# Altium footprint library Footprint.PcbLib: 240 footprints (part 15 of 15)
Each footprint in its own frame and in the unit in brackets; x right, y up, seen from the top. Pads: shape width x height; smd on the part's side, far side on the other; paste and mask are expansions set on the pad; w line width, h text height; cw(c..) or ccw(c..) is an arc to the next point about the centre after c.
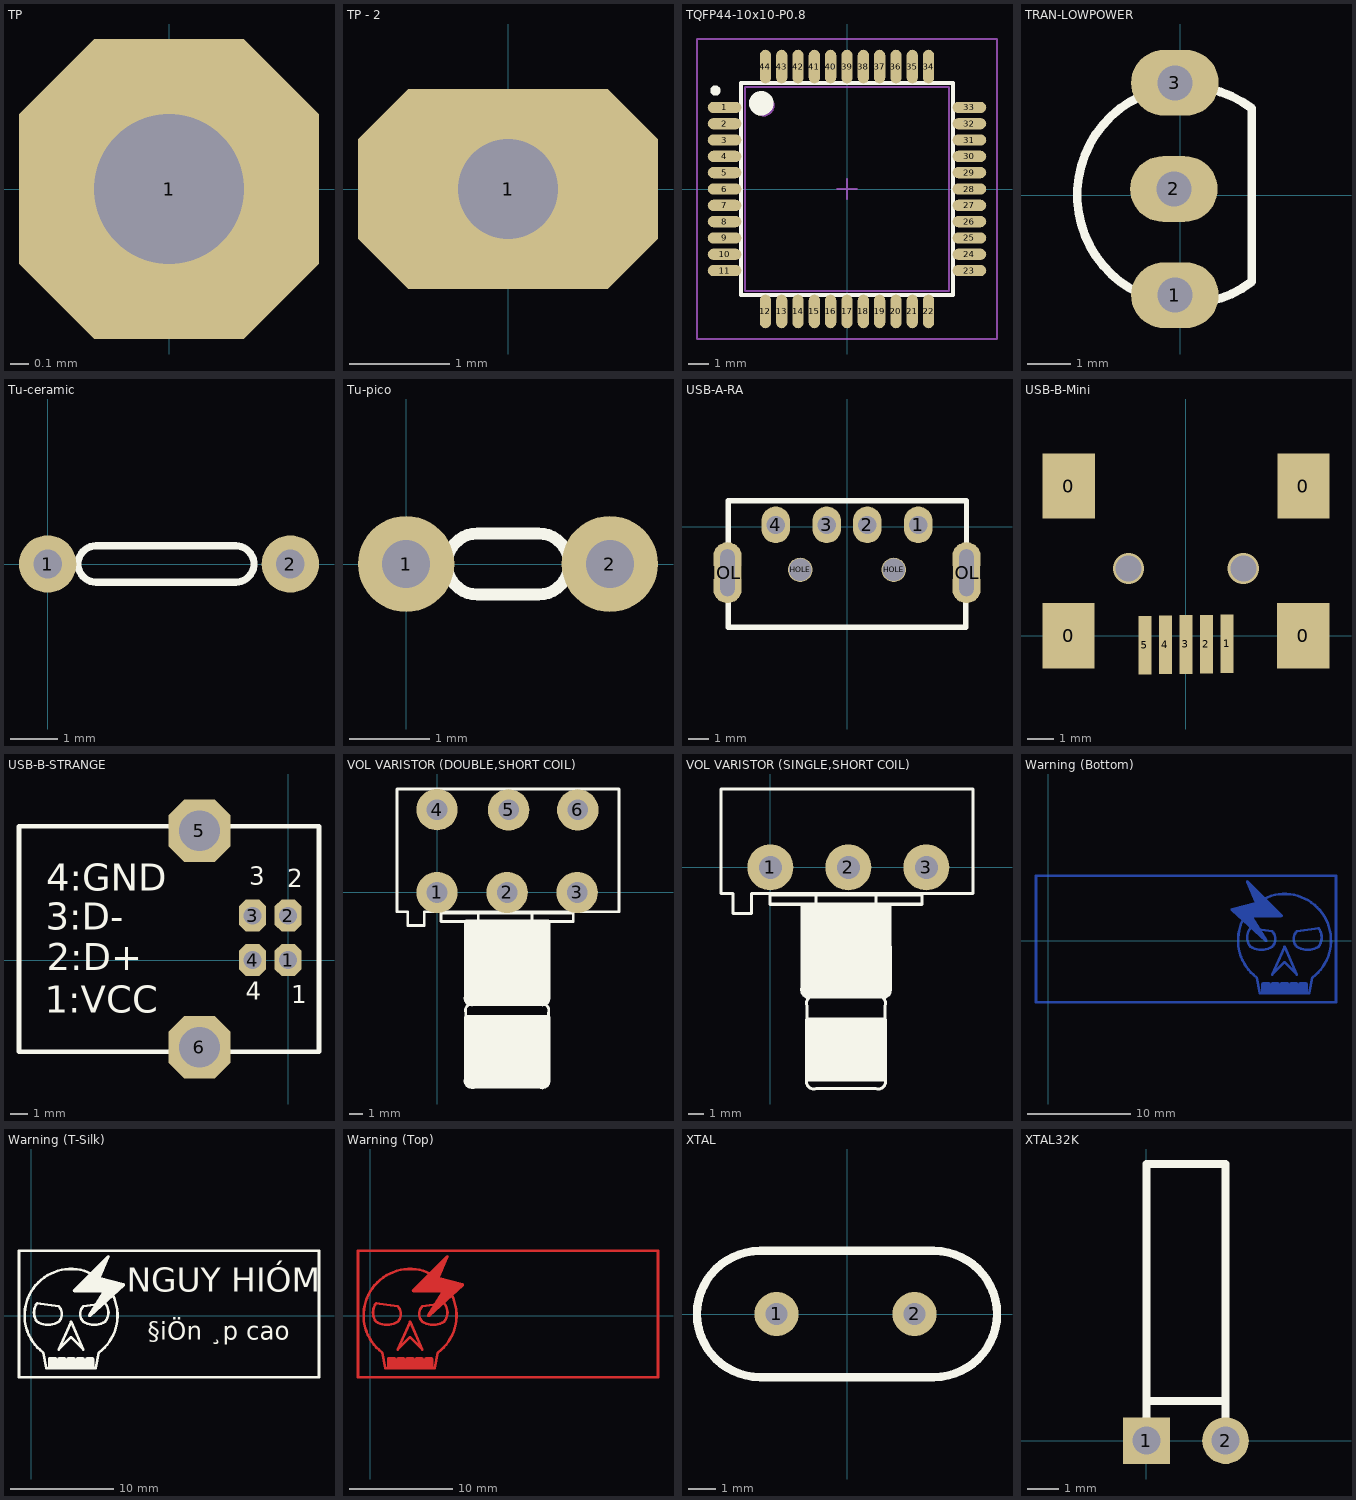
[diagram p14: the footprints below, top view; thin cyan lines are the x and y axes]

## TP [mm] "TestPoint"
pads (1):
  oct 1.6x1.6 hole 0.8: 1(0,0)

## TP - 2 [mm] "TestPoint"
pads (1):
  oct 3x2 hole 1: 1(0,0)

## TQFP44-10x10-P0.8 [mm] "QFP, 44-Leads, Body 10x10mm, Pitch 0.8mm, IPC High Density"
height 2.44
pads (44):
  oval 1.65x0.55 smd: 1(-6,4) 2(-6,3.2) 3(-6,2.4) 4(-6,1.6) 5(-6,0.8) 6(-6,0) 7(-6,-0.8) 8(-6,-1.6) 9(-6,-2.4) 10(-6,-3.2) 11(-6,-4) 23(6,-4) 24(6,-3.2) 25(6,-2.4) 26(6,-1.6) 27(6,-0.8) 28(6,0) 29(6,0.8) 30(6,1.6) 31(6,2.4) 32(6,3.2) 33(6,4)
  oval 0.55x1.65 smd: 12(-4,-6) 13(-3.2,-6) 14(-2.4,-6) 15(-1.6,-6) 16(-0.8,-6) 17(0,-6) 18(0.8,-6) 19(1.6,-6) 20(2.4,-6) 21(3.2,-6) 22(4,-6) 34(4,6) 35(3.2,6) 36(2.4,6) 37(1.6,6) 38(0.8,6) 39(0,6) 40(-0.8,6) 41(-1.6,6) 42(-2.4,6) 43(-3.2,6) 44(-4,6)
Top Overlay:
  circle w0.6: c-4.2,4.2 r0.3
  circle w0.25: c-6.45,4.825 r0.125
  lines w0.2: -5.2,-5.2 5.2,-5.2 5.2,5.2 -5.2,5.2 -5.2,-5.2
Mechanical 13:
  circle w0.1: c-4.1,4.1 r0.5
  lines w0.1: -5,-5 5,-5 5,5 -5,5 -5,-5
Mechanical 15:
  lines w0.1: -0.5,0 0.5,0 ; 0,-0.5 0,0.5 ; -7.35,-7.35 7.35,-7.35 7.35,7.35 -7.35,7.35 -7.35,-7.35
3D body: height 1.07, standoff 0, extent -5.994,-5.994 6.006,6.006

## TRAN-LOWPOWER [mm] "TO, Flat Index; 3 In-Line, Axial Leads; Body Dia. 4.5mm; Leads 0.51 x 0.48 mm (max)"
height 6.86
pads (3):
  oval 2x1.5 hole 0.8: 1(-0.127,-2.286) 2(-0.151,0.139) 3(-0.127,2.564)
Top Overlay:
  lines w0.2: 1.627,-1.98 cw(c0.127,0) 1.627,1.98 1.627,-1.98
3D body: height 11, standoff -1, extent -2.476,-2.794 1.524,3.006

## Tu-ceramic [mm] "Tu gom mini"
pads (2):
  round 1.2 hole 0.6: 1(0,0) 2(5.08,0)
Top Overlay:
  lines w0.15: 1.016,-0.381 cw(c1.016,0) 1.016,0.381 3.937,0.381 cw(c3.937,0) 3.937,-0.381 1.016,-0.381
3D body: height 6.12, standoff -1.8, extent -0.378,-0.848 5.461,0.848

## Tu-pico [mm] "Tu gom mini"
pads (2):
  round 1.2 hole 0.6: 1(0,0) 2(2.54,0)
Top Overlay:
  lines w0.15: 0.889,-0.381 cw(c0.889,0) 0.889,0.381 1.651,0.381 cw(c1.651,0) 1.651,-0.381 0.889,-0.381
3D body: height 6.12, standoff -1.8, extent -1.647,-0.848 4.191,0.848

## USB-A-RA [mm] "USB Type A"
pads (8):
  oval 1.4x1.8 hole 0.9: 1(3.5,0.08) 2(1,0.08) 3(-1,0.08) 4(-3.5,0.08)
  oval 1.4x3 hole 0.7 slot 2.3 at 90 deg: HOLE(-5.875,-2.27) HOLE(5.875,-2.27)
  round 1.2 hole 1.1: HOLE(-2.3,-2.13) HOLE(2.3,-2.13)
Top Overlay:
  lines w0.254: 5.842,-2.27 5.842,-4.953 -5.842,-4.953 -5.842,1.27 5.875,1.27 5.875,-2.27
Keep-Out Layer:
  lines w0.254: 5.842,-2.27 5.875,-2.27
3D body: height 2.18, standoff -3.52, extent -6.25,-19.8 6.25,0.23

## USB-B-Mini [mm]
pads (9):
  rect 2x2.5 smd: 0(-4.5,0) 0(-4.496,5.74) 0(4.5,0) 0(4.504,5.74)
  rect 0.5x2.25 smd: 1(1.575,-0.305) 2(0.787,-0.318) 3(0,-0.33) 4(-0.787,-0.343) 5(-1.575,-0.356)
via -2.2,2.58 diameter 1.2 hole 1
via 2.2,2.58 diameter 1.2 hole 1
3D body: height 3.95, standoff -1, extent -5.35,-0.673 5.35,8.527

## USB-B-STRANGE [mm] "USB Type B - STRANGE - Slave Device"
pads (6):
  oct 1.5x1.8 hole 1: 1(0,0) 2(0,2.5) 3(-2,2.5) 4(-2,0)
  oct 3.5x3.5 hole 2.3: 5(-4.988,7.283) 6(-4.988,-4.909)
Top Overlay:
  lines w0.254: -15.148,-5.163 1.743,-5.163 1.743,7.537 -15.148,7.537 -15.148,-5.163
  text "4" at -2.372,-2.242 h1
  text "2" at -0.035,4.108 h1
  text "3" at -2.194,4.235 h1
  text "1" at 0.193,-2.42 h1
  text "4:GND" at -13.624,3.905 h1.52
  text "3:D-" at -13.65,1.695 h1.52
  text "2:D+" at -13.574,-0.565 h1.52
  text "1:VCC" at -13.701,-2.978 h1.52
3D body: height 10.98, standoff -3.24, extent -15.45,-6.179 0.85,8.68

## VOL VARISTOR (DOUBLE,SHORT COIL) [mm]
pads (6):
  round 3 hole 1.5: 1(0,0) 2(5.08,0) 3(10.16,0) 4(0,6.003) 5(5.19,5.991) 6(10.201,5.991)
Top Overlay:
  region: 8.158,-8.928 8.19,-9.004 8.19,-13.482 8.191,-13.484 8.221,-13.635 8.217,-13.656 8.221,-13.677 8.184,-13.863 8.172,-13.881 8.168,-13.902 8.063,-14.059 8.045,-14.071 8.033,-14.088 7.876,-14.193 7.855,-14.198 7.837,-14.21 7.652,-14.246 7.631,-14.242 7.61,-14.246 7.469,-14.218 2.703,-14.214 2.701,-14.216 2.55,-14.246 2.529,-14.242 2.507,-14.246 2.322,-14.209 2.305,-14.197 2.283,-14.193 2.127,-14.088 2.115,-14.07 2.097,-14.058 1.992,-13.901 1.988,-13.88 1.976,-13.862 1.939,-13.677 1.943,-13.656 1.939,-13.635 1.969,-13.484 1.97,-13.482 1.97,-9.004 2.002,-8.928 2.079,-8.896 8.081,-8.896
  region: 8.119,-2.009 8.158,-2.024 8.158,-2.025 8.174,-2.063 8.19,-2.101 8.193,-7.492 8.221,-7.632 8.217,-7.653 8.221,-7.675 8.184,-7.86 8.172,-7.878 8.168,-7.899 8.063,-8.056 8.045,-8.068 8.033,-8.086 7.876,-8.191 7.855,-8.195 7.837,-8.207 7.652,-8.244 7.631,-8.239 7.61,-8.244 7.459,-8.213 7.457,-8.212 2.691,-8.216 2.55,-8.244 2.529,-8.239 2.507,-8.244 2.322,-8.207 2.304,-8.195 2.283,-8.191 2.126,-8.086 2.114,-8.068 2.096,-8.056 1.991,-7.899 1.987,-7.878 1.975,-7.86 1.938,-7.675 1.943,-7.653 1.938,-7.632 1.968,-7.481 1.97,-7.478 1.97,-2.101 2.002,-2.025 2.079,-1.993 8.081,-1.993
  lines w0.2: 2.679,-14.107 7.481,-14.107 ccw(c7.631,-13.656) 8.081,-13.506 8.081,-8.704 ccw(c7.631,-8.554) 7.481,-8.103 ; 2.679,-14.106 cw(c2.529,-13.656) 2.079,-13.506 2.079,-8.704 cw(c2.529,-8.554) 2.679,-8.104 ; 2.679,-8.103 cw(c2.529,-7.653) 2.079,-7.504 2.079,-2.101 8.081,-2.101 8.081,-7.504 cw(c7.631,-7.653) 7.481,-8.104 ; 2.679,-8.104 7.481,-8.104 ; 2.679,-8.104 7.481,-8.104 ; -2.897,-1.4 -2.897,7.504 13.184,7.504 13.184,-1.4 -0.923,-1.4 -0.923,-2.399 -2.123,-2.399 -2.123,-1.4 -2.897,-1.4 ; 0.278,-2.101 0.278,-1.501 9.882,-1.501 9.882,-2.101 0.278,-2.101 ; 2.979,-2.101 6.881,-2.101 6.881,-1.501 2.979,-1.501 2.979,-2.101

## VOL VARISTOR (SINGLE,SHORT COIL) [mm]
pads (3):
  round 3 hole 1.5: 1(0,0) 2(5.08,0) 3(10.16,0)
Top Overlay:
  region: 7.819,-2.309 7.858,-2.325 7.874,-2.363 7.889,-2.401 7.893,-7.792 7.921,-7.932 7.917,-7.954 7.921,-7.975 7.884,-8.16 7.872,-8.178 7.868,-8.199 7.763,-8.356 7.745,-8.368 7.733,-8.386 7.576,-8.491 7.555,-8.495 7.537,-8.507 7.352,-8.544 7.331,-8.539 7.31,-8.544 7.159,-8.514 7.157,-8.512 2.691,-8.516 2.55,-8.544 2.529,-8.54 2.507,-8.544 2.322,-8.507 2.304,-8.495 2.283,-8.491 2.126,-8.386 2.114,-8.368 2.096,-8.356 1.991,-8.199 1.987,-8.178 1.975,-8.16 1.938,-7.975 1.943,-7.954 1.938,-7.932 1.968,-7.781 1.97,-7.778 1.97,-2.401 2.002,-2.325 2.079,-2.293 7.781,-2.293
  region: 7.558,-9.828 7.589,-9.905 7.589,-13.807 7.558,-13.883 7.481,-13.915 2.379,-13.915 2.302,-13.883 2.271,-13.807 2.271,-9.905 2.302,-9.828 2.379,-9.797 7.481,-9.797
  lines w0.2: 2.078,-7.804 ccw(c2.529,-7.954) 2.679,-8.404 7.181,-8.404 ccw(c7.331,-7.954) 7.781,-7.804 7.781,-2.401 2.079,-2.401 2.079,-7.804 ; -3.197,-1.7 -3.197,5.102 13.184,5.102 13.184,-1.7 -1.223,-1.7 -1.223,-3.001 -2.424,-3.001 -2.424,-1.7 -3.197,-1.7 ; -0.022,-2.401 9.882,-2.401 9.882,-1.801 -0.022,-1.801 -0.022,-2.401 ; 2.379,-13.807 ccw(c2.829,-13.956) 2.979,-14.406 6.881,-14.407 ccw(c7.031,-13.956) 7.481,-13.807 7.481,-9.004 ccw(c7.031,-8.854) 6.881,-8.404 2.979,-8.404 ccw(c2.829,-8.854) 2.379,-9.004 2.379,-13.807 ; 2.979,-2.401 2.979,-1.801 6.881,-1.801 6.881,-2.401 2.979,-2.401

## Warning (Bottom) [mm]
Bottom Layer:
  region: 19.314,5.829 19.285,5.829 19.267,5.81 19.242,5.8 19.232,5.774 19.212,5.754 19.212,5.727 19.202,5.703 19.213,5.677 19.213,5.649 20.05,3.696 17.806,3.135 17.773,3.111 17.737,3.094 17.732,3.081 17.721,3.073 17.715,3.033 17.702,2.995 17.708,2.983 17.705,2.969 17.729,2.936 17.746,2.9 21.048,-0.102 21.081,-0.114 21.11,-0.134 21.129,-0.131 21.147,-0.137 21.179,-0.122 21.213,-0.117 21.225,-0.101 21.242,-0.092 21.254,-0.059 21.274,-0.031 21.271,-0.012 21.278,0.007 21.263,0.038 21.257,0.073 19.888,2.264 22.641,2.264 22.738,2.304 22.779,2.401 22.738,2.498 19.437,5.8 19.411,5.811 19.391,5.83 19.364,5.83 19.34,5.84
  region: 24.345,-4.105 24.305,-4.202 24.305,-5.102 24.345,-5.2 24.442,-5.24 25.042,-5.24 25.139,-5.2 25.18,-5.102 25.18,-4.202 25.139,-4.105 25.042,-4.065 24.442,-4.065
  region: 21.644,-4.105 21.603,-4.202 21.603,-5.102 21.644,-5.2 21.741,-5.24 22.341,-5.24 22.438,-5.2 22.478,-5.102 22.478,-4.202 22.438,-4.105 22.341,-4.065 21.741,-4.065
  region: 20.743,-4.105 20.703,-4.202 20.703,-5.102 20.743,-5.2 20.84,-5.24 21.441,-5.24 21.538,-5.2 21.578,-5.102 21.578,-4.202 21.538,-4.105 21.441,-4.065 20.84,-4.065
  region: 23.444,-4.105 23.404,-4.202 23.404,-5.102 23.444,-5.2 23.542,-5.24 24.142,-5.24 24.239,-5.2 24.279,-5.102 24.279,-4.202 24.239,-4.105 24.142,-4.065 23.542,-4.065
  region: 22.544,-4.105 22.504,-4.202 22.504,-5.102 22.544,-5.2 22.641,-5.24 23.241,-5.24 23.338,-5.2 23.378,-5.102 23.378,-4.202 23.338,-4.105 23.241,-4.065 22.641,-4.065
  lines w0.254: -1.201,-6.003 27.94,-6.003 27.94,6.303 -1.201,6.303 -1.201,-6.003 ; 17.839,3.002 20.24,3.602 19.34,5.703 22.641,2.401 19.64,2.401 21.14,0 17.839,3.002 ; 19.64,-0.6 ccw(c20.69,1.05) 21.741,-0.6 ccw(c20.991,0.15) 21.741,0.9 19.64,1.201 ccw(c20.69,0.3) 19.64,-0.6 ; 20.24,-3.602 cw(c22.941,0.014) 25.643,-3.602 25.342,-5.102 20.54,-5.102 20.24,-3.602 ; 21.741,-3.302 22.941,-0.6 24.142,-3.302 22.941,-2.101 21.741,-3.302 ; 24.142,-0.6 cw(c24.892,0.15) 24.142,0.9 26.243,1.201 cw(c25.042,0.3) 26.243,-0.6 cw(c25.193,1.05) 24.142,-0.6
  text "§iÖn ¸p cao" at 14.732,-3.048 h3
  text "NGUY HIÓM" at 17.526,1.143 h4

## Warning (T-Silk) [mm]
Top Overlay:
  region: 4.253,-4.105 4.293,-4.202 4.293,-5.102 4.253,-5.2 4.156,-5.24 3.556,-5.24 3.459,-5.2 3.419,-5.102 3.419,-4.202 3.459,-4.105 3.556,-4.065 4.156,-4.065
  region: 3.353,-4.105 3.393,-4.202 3.393,-5.102 3.353,-5.2 3.255,-5.24 2.655,-5.24 2.558,-5.2 2.518,-5.102 2.518,-4.202 2.558,-4.105 2.655,-4.065 3.255,-4.065
  region: 6.054,-4.105 6.094,-4.202 6.094,-5.102 6.054,-5.2 5.957,-5.24 5.356,-5.24 5.259,-5.2 5.219,-5.102 5.219,-4.202 5.259,-4.105 5.356,-4.065 5.957,-4.065
  region: 5.153,-4.105 5.194,-4.202 5.194,-5.102 5.153,-5.2 5.056,-5.24 4.456,-5.24 4.359,-5.2 4.319,-5.102 4.319,-4.202 4.359,-4.105 4.456,-4.065 5.056,-4.065
  region: 2.452,-4.105 2.492,-4.202 2.492,-5.102 2.452,-5.2 2.355,-5.24 1.755,-5.24 1.658,-5.2 1.617,-5.102 1.617,-4.202 1.658,-4.105 1.755,-4.065 2.355,-4.065
  region: 7.483,5.829 7.512,5.829 7.53,5.81 7.555,5.8 7.565,5.774 7.585,5.754 7.585,5.727 7.595,5.703 7.584,5.677 7.584,5.649 6.747,3.696 8.991,3.135 9.024,3.111 9.06,3.094 9.065,3.081 9.076,3.073 9.082,3.033 9.095,2.995 9.089,2.983 9.092,2.969 9.068,2.936 9.051,2.9 5.749,-0.102 5.716,-0.114 5.687,-0.134 5.668,-0.131 5.65,-0.137 5.618,-0.122 5.584,-0.117 5.572,-0.101 5.555,-0.092 5.543,-0.059 5.523,-0.031 5.526,-0.012 5.519,0.007 5.534,0.038 5.54,0.073 6.909,2.264 4.156,2.264 4.059,2.304 4.018,2.401 4.059,2.498 7.36,5.8 7.386,5.811 7.406,5.83 7.433,5.83 7.457,5.84
  lines w0.254: -1.201,-6.003 -1.201,6.303 27.94,6.303 27.94,-6.003 -1.201,-6.003 ; 0.554,-0.6 ccw(c1.604,1.05) 2.655,-0.6 ccw(c1.905,0.15) 2.655,0.9 0.554,1.201 ccw(c1.755,0.3) 0.554,-0.6 ; 1.154,-3.602 cw(c3.856,0.014) 6.557,-3.602 6.257,-5.102 1.455,-5.102 1.154,-3.602 ; 2.655,-3.302 3.856,-0.6 5.056,-3.302 3.856,-2.101 2.655,-3.302 ; 4.156,2.401 7.457,5.703 6.557,3.602 8.958,3.002 5.657,0 7.157,2.401 4.156,2.401 ; 5.056,-0.6 cw(c5.806,0.15) 5.056,0.9 7.157,1.201 cw(c6.107,0.3) 7.157,-0.6 cw(c6.107,1.05) 5.056,-0.6
  text "NGUY HIÓM" at 9.271,1.524 h4
  text "§iÖn ¸p cao" at 11.303,-2.921 h3

## Warning (Top) [mm]
Top Layer:
  region: 7.483,5.829 7.512,5.829 7.53,5.81 7.555,5.8 7.565,5.774 7.585,5.754 7.585,5.727 7.595,5.703 7.584,5.677 7.584,5.649 6.747,3.696 8.991,3.135 9.024,3.111 9.06,3.094 9.065,3.081 9.076,3.073 9.082,3.033 9.095,2.995 9.089,2.983 9.092,2.969 9.068,2.936 9.051,2.9 5.749,-0.102 5.716,-0.114 5.687,-0.134 5.668,-0.131 5.65,-0.137 5.618,-0.122 5.584,-0.117 5.572,-0.101 5.555,-0.092 5.543,-0.059 5.523,-0.031 5.526,-0.012 5.519,0.007 5.534,0.038 5.54,0.073 6.909,2.264 4.156,2.264 4.059,2.304 4.018,2.401 4.059,2.498 7.36,5.8 7.386,5.811 7.406,5.83 7.433,5.83 7.457,5.84
  region: 2.452,-4.105 2.492,-4.202 2.492,-5.102 2.452,-5.2 2.355,-5.24 1.755,-5.24 1.658,-5.2 1.617,-5.102 1.617,-4.202 1.658,-4.105 1.755,-4.065 2.355,-4.065
  region: 5.153,-4.105 5.194,-4.202 5.194,-5.102 5.153,-5.2 5.056,-5.24 4.456,-5.24 4.359,-5.2 4.319,-5.102 4.319,-4.202 4.359,-4.105 4.456,-4.065 5.056,-4.065
  region: 6.054,-4.105 6.094,-4.202 6.094,-5.102 6.054,-5.2 5.957,-5.24 5.356,-5.24 5.259,-5.2 5.219,-5.102 5.219,-4.202 5.259,-4.105 5.356,-4.065 5.957,-4.065
  region: 3.353,-4.105 3.393,-4.202 3.393,-5.102 3.353,-5.2 3.255,-5.24 2.655,-5.24 2.558,-5.2 2.518,-5.102 2.518,-4.202 2.558,-4.105 2.655,-4.065 3.255,-4.065
  region: 4.253,-4.105 4.293,-4.202 4.293,-5.102 4.253,-5.2 4.156,-5.24 3.556,-5.24 3.459,-5.2 3.419,-5.102 3.419,-4.202 3.459,-4.105 3.556,-4.065 4.156,-4.065
  lines w0.254: -1.201,-6.003 27.94,-6.003 27.94,6.303 -1.201,6.303 -1.201,-6.003 ; 0.554,-0.6 cw(c1.755,0.3) 0.554,1.201 2.655,0.9 cw(c1.905,0.15) 2.655,-0.6 cw(c1.604,1.05) 0.554,-0.6 ; 1.154,-3.602 cw(c3.856,0.014) 6.557,-3.602 6.257,-5.102 1.455,-5.102 1.154,-3.602 ; 2.655,-3.302 3.856,-2.101 5.056,-3.302 3.856,-0.6 2.655,-3.302 ; 4.156,2.401 7.157,2.401 5.657,0 8.958,3.002 6.557,3.602 7.457,5.703 4.156,2.401 ; 5.056,-0.6 ccw(c6.107,1.05) 7.157,-0.6 ccw(c6.107,0.3) 7.157,1.201 5.056,0.9 ccw(c5.806,0.15) 5.056,-0.6
  text "§iÖn ¸p cao" at 11.303,-2.921 h3
  text "NGUY HIÓM" at 9.271,1.524 h4

## XTAL [mm]
pads (2):
  round 1.6 hole 0.8: 1(-2.552,0.001) 2(2.448,0.001)
Top Overlay:
  lines w0.305: -3.15,-2.286 cw(c-3.15,0) -3.15,2.286 3.15,2.286 cw(c3.15,0) 3.15,-2.286 -3.15,-2.286
3D body: height 3.63, standoff -1.97, extent -5.551,-2.325 5.621,2.348

## XTAL32K [mm] "Connector; Header; 2 Position"
height 5.59
pads (2):
  rect 1.5x1.5 hole 0.9: 1(0,0)
  round 1.5 hole 0.9: 2(2.54,0)
Top Overlay:
  lines w0.254: 0,0 0,1.27 ; 2.54,0 2.54,1.27 ; 0,1.27 0,8.89 2.54,8.89 2.54,1.27 ; 0,1.27 2.54,1.27